# Altium integrated library TSW-111-07-G-D.IntLib: 2 symbols
Pins are listed as number, name and electrical type; pins without a type are passive.

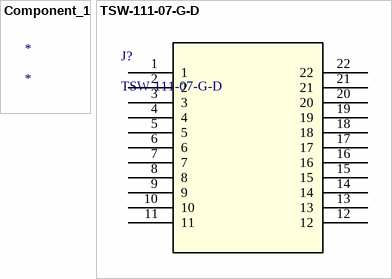
[diagram p0: symbols Component_1 to TSW-111-07-G-D]

## Component_1
designator *

## TSW-111-07-G-D
designator J?
No Description Available; Mfr_Name: Samtec Inc; Copyright: Copyright (C) 2022 Ultra Librarian. All rights reserved.; Manufacturer_Part_Number: TSW-111-07-G-D; RefDes: RefDes; Type: DEV
footprint TSW-111-07-G-D_SAI
pins: 1, 2, 3, 4, 5, 6, 7, 8, 9, 10, 11, 12, 13, 14, 15, 16, 17, 18, 19, 20, 21, 22